# Altium footprint library PCB_Active.PcbLib: 14 footprints
Each footprint in its own frame and in the unit in brackets; x right, y up, seen from the top. Pads: shape width x height; smd on the part's side, far side on the other; paste and mask are expansions set on the pad; w line width, h text height; cw(c..) or ccw(c..) is an arc to the next point about the centre after c.
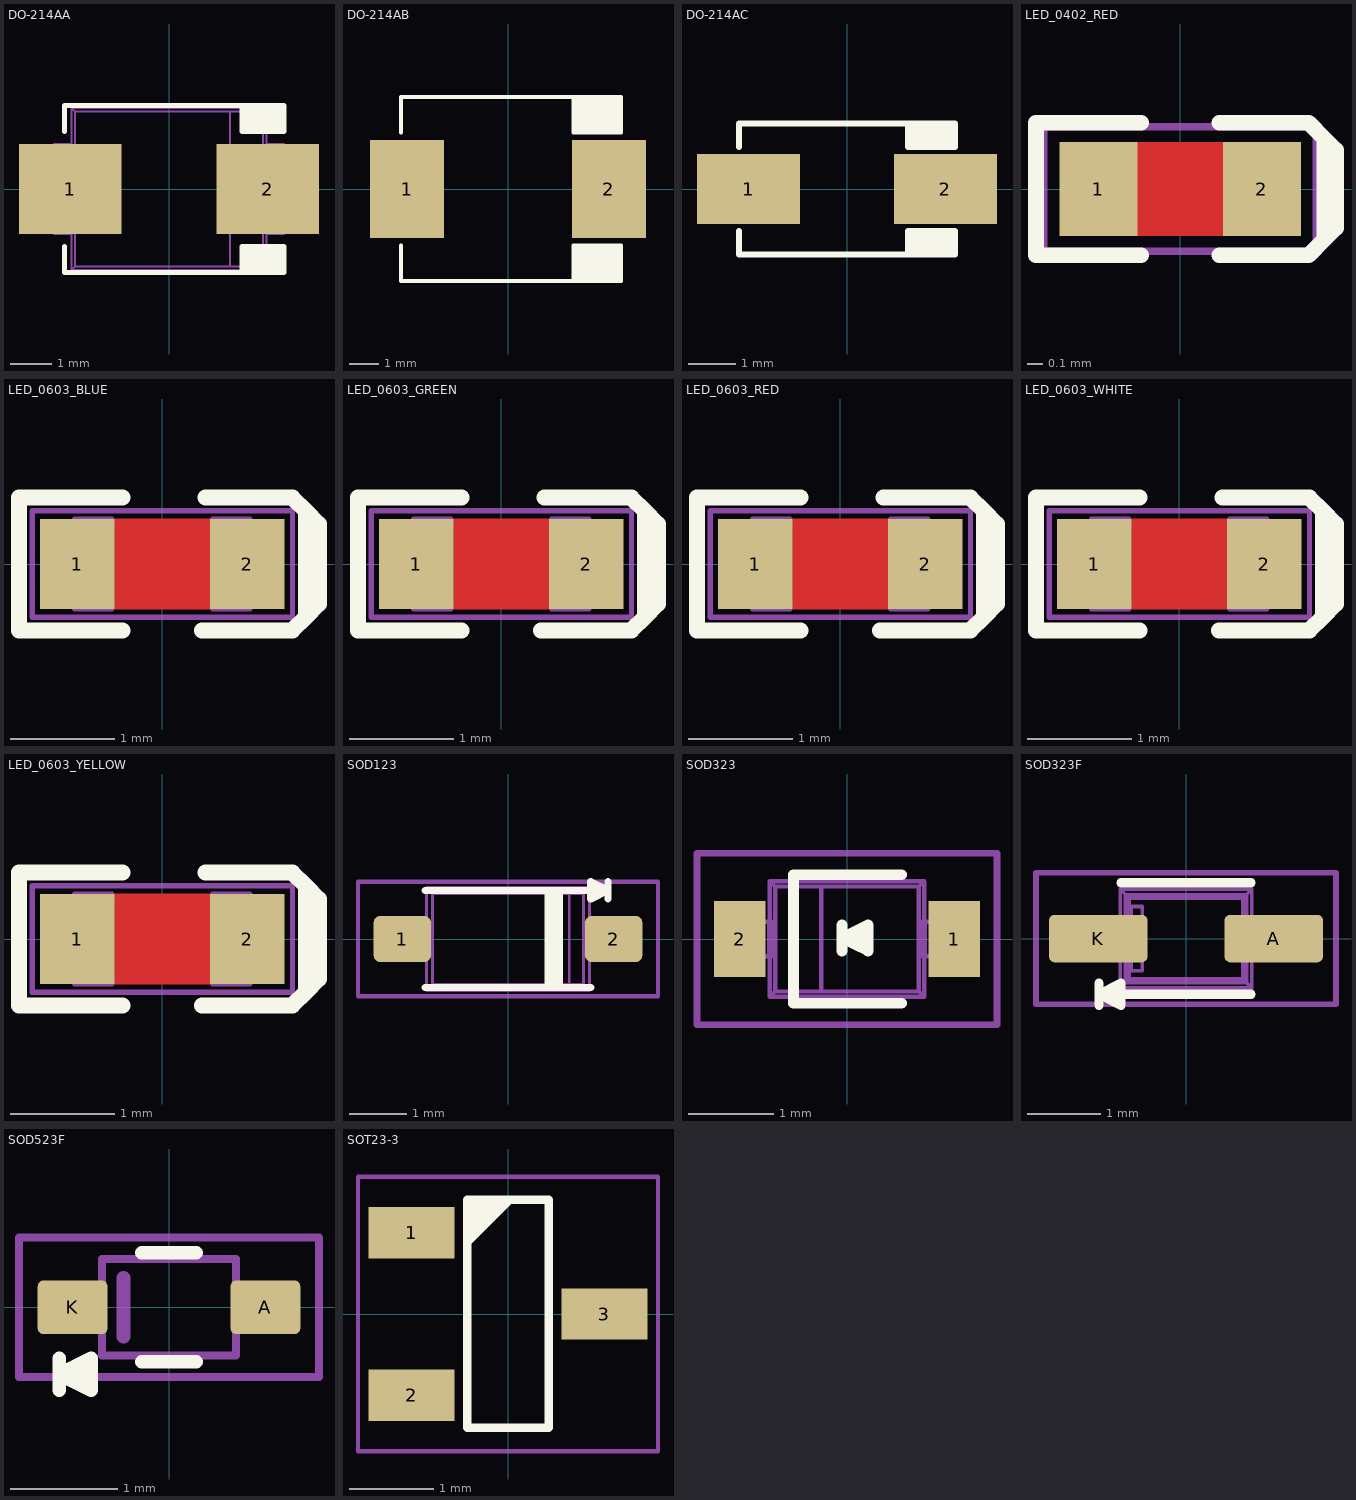
[diagram p0: the footprints below, top view; thin cyan lines are the x and y axes]

## DO-214AA [mm] "JEDEC DO214 variation AA. SMB"
height 2.65
pads (2):
  rect 2.5x2.2 smd: 1(-2.4,0) 2(2.4,0)
Top Overlay:
  region: 1.778,1.397 1.778,2.032 2.794,2.032 2.794,1.397
  region: 1.778,-1.397 1.778,-2.032 2.794,-2.032 2.794,-1.397
  lines w0.127: -2.54,-1.397 -2.54,-2.032 1.778,-2.032 ; -2.54,1.397 -2.54,2.032 1.778,2.032 ; 1.778,-2.032 1.778,-1.397 2.794,-1.397 2.794,-2.032 1.778,-2.032 ; 1.778,2.032 2.794,2.032 2.794,1.397 1.778,1.397 1.778,2.032
Mechanical 13:
  lines w0.05: -2.375,-1.1 -2.375,-1.973 ; -2.375,1.1 -2.375,1.973 ; 2.375,-1.1 2.375,-1.973 ; 2.375,1.1 2.375,1.973 ; -2.375,-1.973 -2.373,-1.975 2.373,-1.975 2.375,-1.973 ; -2.375,-1.973 -2.285,-1.883 ; -2.375,1.973 -2.373,1.975 2.373,1.975 2.375,1.973 ; -2.375,1.973 -2.285,1.883 ; -2.285,-1.883 1.485,-1.884 ; -2.285,-1.883 -2.285,1.883 ; -2.285,1.883 1.485,1.884 ; 1.485,-1.884 2.285,-1.884 ; 1.485,-1.884 1.485,1.884 ; 1.485,1.884 2.285,1.884 ; 2.285,-1.884 2.285,1.884 ; 2.285,-1.884 2.375,-1.973 ; 2.285,1.884 2.375,1.973 ; -2.8,-1.1 -2.356,-1.1 -2.356,1.1 -2.8,1.1 -2.8,-1.1 ; 2.356,-1.1 2.8,-1.1 2.8,1.1 2.356,1.1 2.356,-1.1
3D body: height 2.62, standoff 0, extent -2.8,-1.975 2.8,1.975

## DO-214AB [mm] "JEDEC DO214 variation AB. SMC"
height 2.5
pads (2):
  rect 2.5x3.3 smd: 1(-3.4,0) 2(3.4,0)
Top Overlay:
  rectangle: 2.2,1.9 3.8,3.1
  rectangle: 2.2,-3.1 3.8,-1.9
  lines w0.127: -3.6,-1.9 -3.6,-3.1 3.8,-3.1 3.8,-1.9 2.2,-1.9 2.2,-3.1 ; -3.6,1.9 -3.6,3.1 3.8,3.1 3.8,1.9 2.2,1.9 2.2,3.1
3D body: height 2.62, standoff 0.01, extent -3.975,-2.975 4.05,2.975

## DO-214AC [mm] "JEDEC DO214 variation AC. SMA"
height 2.5
pads (2):
  rect 2.2x1.5 smd: 1(-2.1,0) 2(2.1,0)
Top Overlay:
  rectangle: 1.3,-1.4 2.3,-0.9
  rectangle: 1.3,0.9 2.3,1.4
  lines w0.127: -2.3,-0.9 -2.3,-1.4 2.3,-1.4 2.3,-0.9 1.3,-0.9 1.3,-1.4 ; -2.3,0.9 -2.3,1.4 2.3,1.4 2.3,0.9 1.3,0.9 ; 1.3,0.911 1.3,1.4
3D body: height 2.42, standoff 0.02, extent -2.6,-1.3 2.6,1.3

## LED_0402_RED [mil]
height 31.5
pads (2):
  rect 20x24 smd: 1(-21,0) 2(21,0)
Top Layer:
  pour cut-out: -11,12 11,12 11,-12 -11,-12
Top Overlay:
  lines w4: -10,-17 -37,-17 -37,17 -10,17 ; 10,-17 33,-17 37,-13 ; 10,17 33,17 37,13 ; 37,-13 37,13 ; 37,-13 40,-10 40,10 37,13
Mechanical 13:
  lines w1: -12.8,-10 12.8,-10 ; -12.8,10 12.8,10.03 ; -20.67,-10.83 -12.8,-10.83 -12.8,10.83 -20.67,10.83 -20.67,-10.83 ; 12.8,-10.83 12.8,10.83 20.67,10.83 20.67,-10.83 12.8,-10.83
Mechanical 14:
  lines w2: -35,-16 35,-16 35,16 -35,16 -35,-16
3D body: height 17.72, standoff 0, extent -19.88,-9.84 19.89,9.85

## LED_0603_BLUE [mil]
height 31.5
pads (2):
  rect 28x34 smd: 1(-32,0) 2(32,0)
Top Layer:
  pour cut-out: -18,17 18,17 18,-17 -18,-17
Top Overlay:
  lines w6: -15,-25 -54,-25 -54,25 -15,25 ; 15,-25 49,-25 54,-20 ; 16.25,25 49,25 54,20 ; 54,-20 59,-15 59,15 54,20 ; 54,-20 54,20
Mechanical 13:
  lines w1.97: -33,-17 -19,-17 -19,17 -33,17 -33,-17 ; 19.01,-17 19.01,17 33.01,17 33.01,-17 19.01,-17
  lines w2: -19,-15 19,-15 ; -18.99,15 19.01,15
Mechanical 14:
  lines w2: -49,-20 49,-20 49,20 -49,20 -49,-20
3D body: height 29.53, standoff 0, extent -31.49,-15.74 31.5,15.75

## LED_0603_GREEN [mil]
height 31.5
pads (2):
  rect 28x34 smd: 1(-32,0) 2(32,0)
Top Layer:
  pour cut-out: -18,17 18,17 18,-17 -18,-17
Top Overlay:
  lines w6: -15,-25 -54,-25 -54,25 -15,25 ; 15,-25 49,-25 54,-20 ; 16.25,25 49,25 54,20 ; 54,-20 54,20 ; 54,-20 59,-15 59,15 54,20
Mechanical 13:
  lines w1.97: -33,-17 -33,17 -19,17 -19,-17 -33,-17 ; 19.01,-17 33.01,-17 33.01,17 19.01,17 19.01,-17
  lines w2: -19,-15 19,-15 ; -18.99,15 19.01,15
Mechanical 14:
  lines w2: -49,-20 -49,20 49,20 49,-20 -49,-20
3D body: height 29.53, standoff 0, extent -31.49,-15.74 31.5,15.75

## LED_0603_RED [mil]
height 31.5
pads (2):
  rect 28x34 smd: 1(-32,0) 2(32,0)
Top Layer:
  pour cut-out: -18,17 18,17 18,-17 -18,-17
Top Overlay:
  lines w6: -15,-25 -54,-25 -54,25 -15,25 ; 15,-25 49,-25 54,-20 ; 16.25,25 49,25 54,20 ; 54,-20 59,-15 59,15 54,20 ; 54,-20 54,20
Mechanical 13:
  lines w1.97: -33,-17 -19,-17 -19,17 -33,17 -33,-17 ; 19.01,-17 19.01,17 33.01,17 33.01,-17 19.01,-17
  lines w2: -19,-15 19,-15 ; -18.99,15 19.01,15
Mechanical 14:
  lines w2: -49,-20 49,-20 49,20 -49,20 -49,-20
3D body: height 29.53, standoff 0, extent -31.49,-15.74 31.5,15.75

## LED_0603_WHITE [mil]
height 31.5
pads (2):
  rect 28x34 smd: 1(-32,0) 2(32,0)
Top Layer:
  pour cut-out: -18,17 18,17 18,-17 -18,-17
Top Overlay:
  lines w6: -15,-25 -54,-25 -54,25 -15,25 ; 15,-25 49,-25 54,-20 ; 16.25,25 49,25 54,20 ; 54,-20 59,-15 59,15 54,20 ; 54,-20 54,20
Mechanical 13:
  lines w1.97: -33,-17 -19,-17 -19,17 -33,17 -33,-17 ; 19.01,-17 19.01,17 33.01,17 33.01,-17 19.01,-17
  lines w2: -19,-15 19,-15 ; -18.99,15 19.01,15
Mechanical 14:
  lines w2: -49,-20 49,-20 49,20 -49,20 -49,-20
3D body: height 29.53, standoff 0, extent -31.49,-15.74 31.5,15.76

## LED_0603_YELLOW [mil]
height 31.5
pads (2):
  rect 28x34 smd: 1(-32,0) 2(32,0)
Top Layer:
  pour cut-out: -18,17 18,17 18,-17 -18,-17
Top Overlay:
  lines w6: -15,-25 -54,-25 -54,25 -15,25 ; 15,-25 49,-25 54,-20 ; 16.25,25 49,25 54,20 ; 54,-20 59,-15 59,15 54,20 ; 54,-20 54,20
Mechanical 13:
  lines w1.97: -33,-17 -19,-17 -19,17 -33,17 -33,-17 ; 19.01,-17 19.01,17 33.01,17 33.01,-17 19.01,-17
  lines w2: -19,-15 19,-15 ; -18.99,15 19.01,15
Mechanical 14:
  lines w2: -49,-20 49,-20 49,20 -49,20 -49,-20
3D body: height 29.53, standoff 0, extent -31.49,-15.74 31.5,15.75

## SOD123 [mm] "SOD-123; 2 Leads; Body 2.7 x 1.6 mm, (LxW)"
height 1.35
pads (2):
  rrect25% 1x0.8 smd: 1(-1.85,0) 2(1.85,0)
Top Overlay:
  lines w0.127: -1.45,-0.85 1.45,-0.85 ; -1.448,0.85 1.45,0.85 1.75,0.85 ; 0.7,-0.85 0.7,0.85 ; 0.8,-0.85 0.8,0.85 ; 0.9,-0.85 0.9,0.85 ; 1.75,0.7 1.75,1 ; 1.75,0.85 1.45,1 1.45,0.7 1.75,0.85
Mechanical 13:
  lines w0.05: -1.766,-0.308 -1.766,0.308 ; -1.707,-0.308 -1.707,0.308 ; -1.517,-0.308 -1.517,0.308 ; -1.425,-0.308 -1.95,-0.308 -1.95,0.308 -1.425,0.308 ; 1.425,-0.308 1.95,-0.308 1.95,0.308 1.425,0.308 ; 1.517,-0.308 1.517,0.308 ; 1.707,-0.308 1.707,0.308 ; 1.766,-0.308 1.766,0.308 ; -1.425,-0.9 -1.322,-0.797 ; -1.425,-0.9 -1.425,0.9 ; -1.425,-0.9 1.425,-0.9 ; -1.425,0.9 -1.322,0.797 ; -1.425,0.9 1.425,0.9 ; -1.322,-0.797 -1.322,0.797 ; -1.322,-0.797 1.072,-0.798 ; -1.322,0.797 1.072,0.798 ; 1.072,-0.798 1.072,0.798 ; 1.072,-0.798 1.323,-0.798 ; 1.072,0.798 1.323,0.798 ; 1.323,-0.798 1.425,-0.9 ; 1.323,-0.798 1.323,0.798 ; 1.323,0.798 1.425,0.9 ; 1.425,-0.9 1.425,0.9
Mechanical 14:
  lines w0.076: -2.625,-1 2.625,-1 2.625,1 -2.625,1 -2.625,-1
3D body: height 1.18, standoff 0, extent -1.95,-0.9 1.95,0.9

## SOD323 [mm] "SOD-323; 2 Leads; Body 1.8 x 1.35 mm, (LxW)"
height 1.15
pads (2):
  rrect0% 0.6x0.889 smd: 1(1.25,0) 2(-1.25,0)
Top Overlay:
  lines w0.127: -0.057,-0.138 -0.057,0.162 ; 0.243,0.012 -0.057,0.012 ; 0.635,-0.75 -0.625,-0.75 -0.625,0.75 0.635,0.75 ; -0.057,0.012 0.243,-0.138 0.243,0.162 -0.057,0.012
Mechanical 13:
  lines w0.05: -1.157,-0.2 -1.157,0.2 ; -1.11,-0.2 -1.11,0.2 ; -0.91,-0.2 -0.91,0.2 ; -0.9,-0.2 -0.9,-0.675 ; -0.9,0.2 -0.9,0.675 ; 0.9,-0.2 0.9,-0.675 ; 0.9,0.2 0.9,0.675 ; 0.91,-0.2 0.91,0.2 ; 1.11,-0.2 1.11,0.2 ; 1.157,-0.2 1.157,0.2 ; -0.9,-0.675 0.9,-0.675 ; -0.9,-0.675 -0.838,-0.613 ; -0.9,0.675 -0.838,0.613 ; -0.9,0.675 0.9,0.675 ; -0.838,-0.613 -0.838,0.613 ; -0.838,-0.613 -0.3,-0.613 ; -0.838,0.613 -0.3,0.613 ; -0.3,-0.613 -0.3,0.613 ; -0.3,-0.613 0.838,-0.613 ; -0.3,0.613 0.838,0.613 ; 0.838,-0.613 0.9,-0.675 ; 0.838,-0.613 0.838,0.613 ; 0.838,0.613 0.9,0.675 ; -1.3,-0.2 -1.3,0.2 -0.879,0.2 -0.879,-0.2 -1.3,-0.2 ; 0.879,-0.2 1.3,-0.2 1.3,0.2 0.879,0.2 0.879,-0.2
Mechanical 14:
  lines w0.076: -1.75,-1 -1.75,1 1.75,1 1.75,-1 -1.75,-1
3D body: height 1.1, standoff 0, extent -1.3,-0.675 1.3,0.675

## SOD323F [mm] "SOD-323; 2 Leads; Body 2.7 x 1.6 mm, (LxW)"
height 1.35
pads (2):
  rrect25% 1.35x0.65 smd: A(1.2,0) K(-1.2,0)
Top Overlay:
  lines w0.127: -1.189,-0.912 -1.189,-0.612 ; -0.889,0.762 0.889,0.762 ; 0.889,-0.762 -0.889,-0.762 -1.189,-0.762 ; -1.189,-0.762 -0.889,-0.612 -0.889,-0.912 -1.189,-0.762
Mechanical 13:
  lines w0.05: -0.9,-0.2 -1.25,-0.2 -1.25,0.2 -0.9,0.2 ; 0.9,-0.2 1.25,-0.2 1.25,0.2 0.9,0.2 ; -0.9,-0.675 0.9,-0.675 ; -0.9,-0.675 -0.9,0.675 ; -0.9,-0.675 -0.776,-0.551 ; -0.9,0.675 0.9,0.675 ; -0.9,0.675 -0.776,0.551 ; -0.776,-0.551 0.776,-0.551 ; -0.776,-0.551 -0.776,0.551 ; -0.776,0.551 0.776,0.551 ; 0.776,-0.551 0.9,-0.675 ; 0.776,-0.551 0.776,0.551 ; 0.776,0.551 0.9,0.675 ; 0.9,-0.675 0.9,0.675 ; -0.826,-0.601 0.826,-0.601 0.826,0.601 -0.826,0.601 -0.826,-0.601 ; -0.75,-0.439 -0.6,-0.439 -0.6,0.439 -0.75,0.439 -0.75,-0.439
Mechanical 14:
  lines w0.076: -2.05,-0.9 -2.05,0.9 2.05,0.9 2.05,-0.9 -2.05,-0.9
3D body: height 1, standoff 0, extent -1.25,-0.675 1.25,0.675

## SOD523F [mm] "SOD-523F; 2 Leads; Body 1.3 x 0.9 mm, (LxW)"
height 0.7
pads (2):
  rrect20% 0.65x0.5 smd: A(0.9,0) K(-0.9,0)
Top Overlay:
  lines w0.127: -1.025,-0.775 -1.025,-0.475 ; -0.725,-0.625 -1.025,-0.625 ; -0.254,-0.508 0.254,-0.508 ; -0.254,0.508 0.254,0.508 ; -1.025,-0.625 -0.725,-0.775 -0.725,-0.475 -1.025,-0.625
Mechanical 13:
  lines w0.076: -0.625,-0.175 -0.625,0.175 ; -0.625,-0.175 -0.625,-0.45 0.625,-0.45 0.625,-0.175 ; -0.625,-0.175 -0.85,-0.175 -0.85,0.175 -0.625,0.175 ; -0.625,0.175 -0.625,0.45 0.625,0.45 0.625,0.175 ; 0.625,-0.175 0.625,0.175 ; 0.625,-0.175 0.85,-0.175 0.85,0.175 0.625,0.175
  lines w0.127: -0.425,-0.275 -0.425,0.275
Mechanical 14:
  lines w0.076: -1.4,-0.65 1.4,-0.65 1.4,0.65 -1.4,0.65 -1.4,-0.65
3D body: height 0.7, standoff 0, extent -0.85,-0.45 0.85,0.45

## SOT23-3 [mil] "SOT23, 3 pin"
height 39.5
pads (3):
  rect 40x24 smd: 1(-45,38) 2(-45,-38) 3(45,0)
Top Overlay:
  region: -19,53.04 3.09,53.04 -19,30.96
  lines w4: -19,-53.03 19,-53.03 19,53.27 -19,53.27 -19,-53.03
Mechanical 14:
  lines w2: -70,-64 70,-64 70,64 -70,64 -70,-64
3D body: height 50.68, standoff -0.5, extent -55.11,-57.09 55.12,57.08